# EAGLE library part LM2594HVM-3.3 (library rti)
SIMPLE SWITCHER
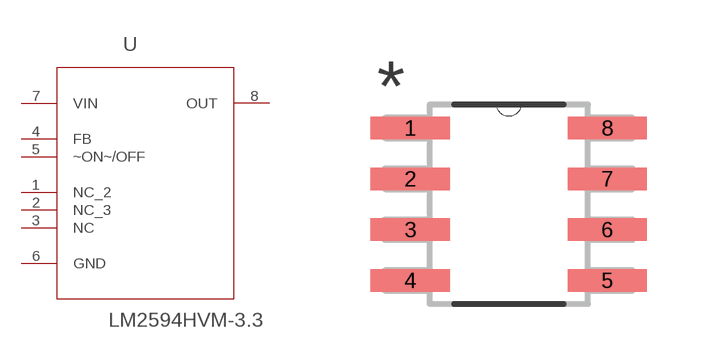
[diagram p3: symbol with the pads of SOIC127P620X175-8N; footprint SOIC127P620X175-8N]

Designator prefix U

## LM2594HVM-3.3 (MPN: LM2594HVM-33; OC_FARNELL: 1564635; OC_NEWARK: 41K3809; PACKAGE: SOIC-8; SUPPLIER: National Semiconductor)  [SOIC127P620X175-8N]
1  NC_2  nc
2  NC_3  nc
3  NC  nc
4  FB  in
5  ~ON~/OFF  in
6  GND  pas
7  VIN  pwr
8  OUT  out

## Footprint SOIC127P620X175-8N (pad centres in mm)
smd 1.981 x 0.559: 1 -2.464,1.905; 2 -2.464,0.635; 3 -2.464,-0.635; 4 -2.464,-1.905; 5 2.464,-1.905; 6 2.464,-0.635; 7 2.464,0.635; 8 2.464,1.905